# Altium schematic symbol library AD.SchLib: 8 symbols
Pins are listed as number, name and electrical type; pins without a type are passive.

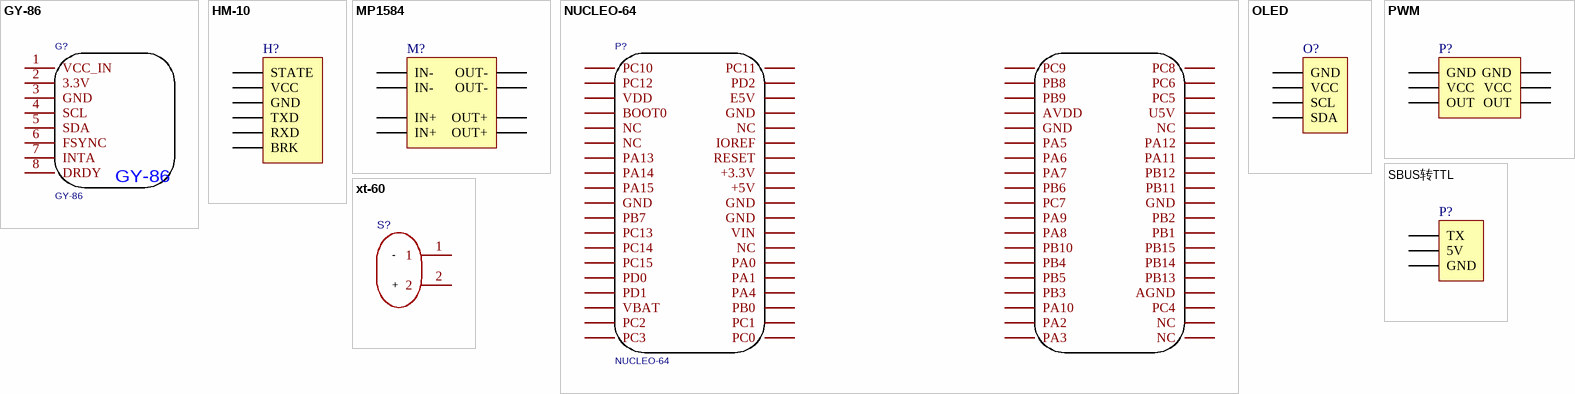
[diagram p0: symbols GY-86 to xt-60]

## GY-86
designator G?
GY-86模块; AddInBom: yes; Symbol: GY-86; Device: GY-86; FootprintName: GY-86
footprint GY-86
pins: 1 VCC_IN, 2 3.3V, 3 GND, 4 SCL, 5 SDA, 6 FSYNC, 7 INTA, 8 DRDY

## HM-10
designator H?
HM-10蓝牙模块; LatestRevisionDate: 17-Jul-2002; LatestRevisionNote: Re-released for DXP Platform.; Publisher: Altium Limited
footprint HDR1X6 (Connector; Header; 6 Position)
signal-integrity model Connector
pins: 1 STATE, 2 VCC, 3 GND, 4 TXD, 5 RXD, 6 BRK

## MP1584
designator M?
MP1584EN DC-DC直流降压可调模块; LatestRevisionDate: 17-Jul-2002; LatestRevisionNote: Re-released for DXP Platform.; Publisher: Altium Limited
signal-integrity model Connector
footprint MP1584EN_DC-DC降压模块
pins: 1 IN-, 2 OUT-, 3 IN-, 4 OUT-, 5 IN+, 6 OUT+, 7 IN+, 8 OUT+

## NUCLEO-64
designator P?
STM32F401NUCLEO开发板; Manufacturer: ST; AddInBom: yes; Symbol: NUCLEO-64; Device: NUCLEO-64; FootprintName: NUCLEO-F103RB; SupplierPart: NUCLEO-F103rb; Supplier: Mouser
footprint NUCLEO-F103RB
pins: 1 PC10, 2 PC11, 3 PC12, 4 PD2, 5 VDD, 6 E5V, 7 BOOT0, 8 GND, 9 NC, 10 NC, 11 NC, 12 IOREF, 13 PA13, 14 RESET, 15 PA14, 16 +3.3V, 17 PA15, 18 +5V, 19 GND, 20 GND, 21 PB7, 22 GND, 23 PC13, 24 VIN, 25 PC14, 26 NC, 27 PC15, 28 PA0, 29 PD0, 30 PA1, 31 PD1, 32 PA4, 33 VBAT, 34 PB0, 35 PC2, 36 PC1, 37 PC3, 38 PC0, 73 PC9, 74 PC8, 75 PB8, 76 PC6, 77 PB9, 78 PC5, 79 AVDD, 80 U5V, 81 GND, 82 NC, 83 PA5, 84 PA12, 85 PA6, 86 PA11, 87 PA7, 88 PB12, 89 PB6, 90 PB11, 91 PC7, 92 GND, 93 PA9, 94 PB2, 95 PA8, 96 PB1, 97 PB10, 98 PB15, 99 PB4, 100 PB14, 101 PB5, 102 PB13, 103 PB3, 104 AGND, 105 PA10, 106 PC4, 107 PA2, 108 NC, 109 PA3, 110 NC

## OLED
designator O?
使用I2C通信的0.96寸OLED模块; LatestRevisionDate: 17-Jul-2002; LatestRevisionNote: Re-released for DXP Platform.; Publisher: Altium Limited
signal-integrity model Connector
footprint HDR2.54-M-LI-4P (排母，4脚)
pins: 1 GND, 2 VCC, 3 SCL, 4 SDA

## PWM
designator P?
电机PWM输出; LatestRevisionDate: 17-Jul-2002; LatestRevisionNote: Re-released for DXP Platform.; Publisher: Altium Limited
signal-integrity model Connector
footprint HDR2.54-WI-2x3P (双排弯脚排针，3x2脚)
pins: 1 GND, 2 GND, 3 VCC, 4 VCC, 5 OUT, 6 OUT

## SBUS转TTL
designator P?
SBUS转TTL模块; LatestRevisionDate: 17-Jul-2002; LatestRevisionNote: Re-released for DXP Platform.; Publisher: Altium Limited
footprint HDR1X3 (Connector; Header; 3 Position)
signal-integrity model Connector
pins: 1 TX, 2 5V, 3 GND

## xt-60
designator S?
XT-60插头公头; Symbol: xt-60; AddInBom: yes; Device: xt-60; FootprintName: xt-60; ConvertToPcb: yes
footprint xt-60
pins: 1, 2
text: -; +